# EAGLE library part STM32L100R (library CCupPSU)
STM32L100XX Ultra-low-power 32-bit Value Line ARM Cortex-M3 MCU with 32 Kbytes Flash, 32 MHz CPU, LCD, USB
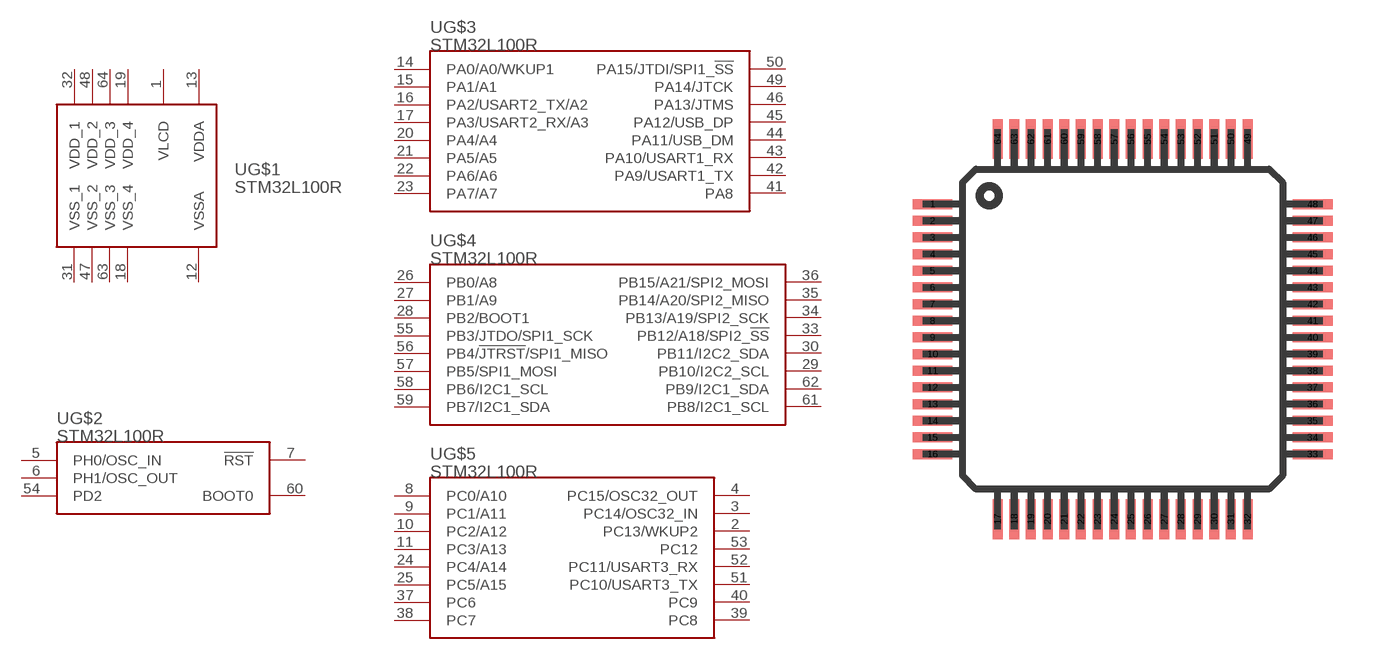
[diagram p2: symbol with the pads of TQFP64; footprint TQFP64]

Designator prefix U; gates G$1=STM32L100XX_PWR G$2=STM32L100XX_MISC G$3=STM32L100XX_PA G$4=STM32L100XX_PB G$5=STM32L100XX_PC

## STM32L100R  [TQFP64]
1  G$1:VLCD  out
2  G$5:PC13/WKUP2
3  G$5:PC14/OSC32_IN
4  G$5:PC15/OSC32_OUT
5  G$2:PH0/OSC_IN
6  G$2:PH1/OSC_OUT
7  G$2:!RST!  in
8  G$5:PC0/A10
9  G$5:PC1/A11
10  G$5:PC2/A12
11  G$5:PC3/A13
12  G$1:VSSA  pwr
13  G$1:VDDA  pwr
14  G$3:PA0/A0/WKUP1
15  G$3:PA1/A1
16  G$3:PA2/USART2_TX/A2
17  G$3:PA3/USART2_RX/A3
18  G$1:VSS_4  pwr
19  G$1:VDD_4  pwr
20  G$3:PA4/A4
21  G$3:PA5/A5
22  G$3:PA6/A6
23  G$3:PA7/A7
24  G$5:PC4/A14
25  G$5:PC5/A15
26  G$4:PB0/A8
27  G$4:PB1/A9
28  G$4:PB2/BOOT1
29  G$4:PB10/I2C2_SCL
30  G$4:PB11/I2C2_SDA
31  G$1:VSS_1  pwr
32  G$1:VDD_1  pwr
33  G$4:PB12/A18/SPI2_!SS!
34  G$4:PB13/A19/SPI2_SCK
35  G$4:PB14/A20/SPI2_MISO
36  G$4:PB15/A21/SPI2_MOSI
37  G$5:PC6
38  G$5:PC7
39  G$5:PC8
40  G$5:PC9
41  G$3:PA8
42  G$3:PA9/USART1_TX
43  G$3:PA10/USART1_RX
44  G$3:PA11/USB_DM
45  G$3:PA12/USB_DP
46  G$3:PA13/JTMS
47  G$1:VSS_2  pwr
48  G$1:VDD_2  pwr
49  G$3:PA14/JTCK
50  G$3:PA15/JTDI/SPI1_!SS!
51  G$5:PC10/USART3_TX
52  G$5:PC11/USART3_RX
53  G$5:PC12
54  G$2:PD2
55  G$4:PB3/JTDO/SPI1_SCK
56  G$4:PB4/!JTRST!/SPI1_MISO
57  G$4:PB5/SPI1_MOSI
58  G$4:PB6/I2C1_SCL
59  G$4:PB7/I2C1_SDA
60  G$2:BOOT0  in
61  G$4:PB8/I2C1_SCL
62  G$4:PB9/I2C1_SDA
63  G$1:VSS_3  pwr
64  G$1:VDD_3  pwr

## Footprint TQFP64 (pad centres in mm)
smd 1.2 x 0.3: 1 -5.7,3.75; 2 -5.7,3.25; 3 -5.7,2.75; 4 -5.7,2.25; 5 -5.7,1.75; 6 -5.7,1.25; 7 -5.7,0.75; 8 -5.7,0.25; 9 -5.7,-0.25; 10 -5.7,-0.75; 11 -5.7,-1.25; 12 -5.7,-1.75; 13 -5.7,-2.25; 14 -5.7,-2.75; 15 -5.7,-3.25; 16 -5.7,-3.75; 33 5.7,-3.75; 34 5.7,-3.25; 35 5.7,-2.75; 36 5.7,-2.25; 37 5.7,-1.75; 38 5.7,-1.25; 39 5.7,-0.75; 40 5.7,-0.25; 41 5.7,0.25; 42 5.7,0.75; 43 5.7,1.25; 44 5.7,1.75; 45 5.7,2.25; 46 5.7,2.75; 47 5.7,3.25; 48 5.7,3.75
smd 0.3 x 1.2: 17 -3.75,-5.7; 18 -3.25,-5.7; 19 -2.75,-5.7; 20 -2.25,-5.7; 21 -1.75,-5.7; 22 -1.25,-5.7; 23 -0.75,-5.7; 24 -0.25,-5.7; 25 0.25,-5.7; 26 0.75,-5.7; 27 1.25,-5.7; 28 1.75,-5.7; 29 2.25,-5.7; 30 2.75,-5.7; 31 3.25,-5.7; 32 3.75,-5.7; 49 3.75,5.7; 50 3.25,5.7; 51 2.75,5.7; 52 2.25,5.7; 53 1.75,5.7; 54 1.25,5.7; 55 0.75,5.7; 56 0.25,5.7; 57 -0.25,5.7; 58 -0.75,5.7; 59 -1.25,5.7; 60 -1.75,5.7; 61 -2.25,5.7; 62 -2.75,5.7; 63 -3.25,5.7; 64 -3.75,5.7